# EAGLE library part AD9956 (library AD9956)
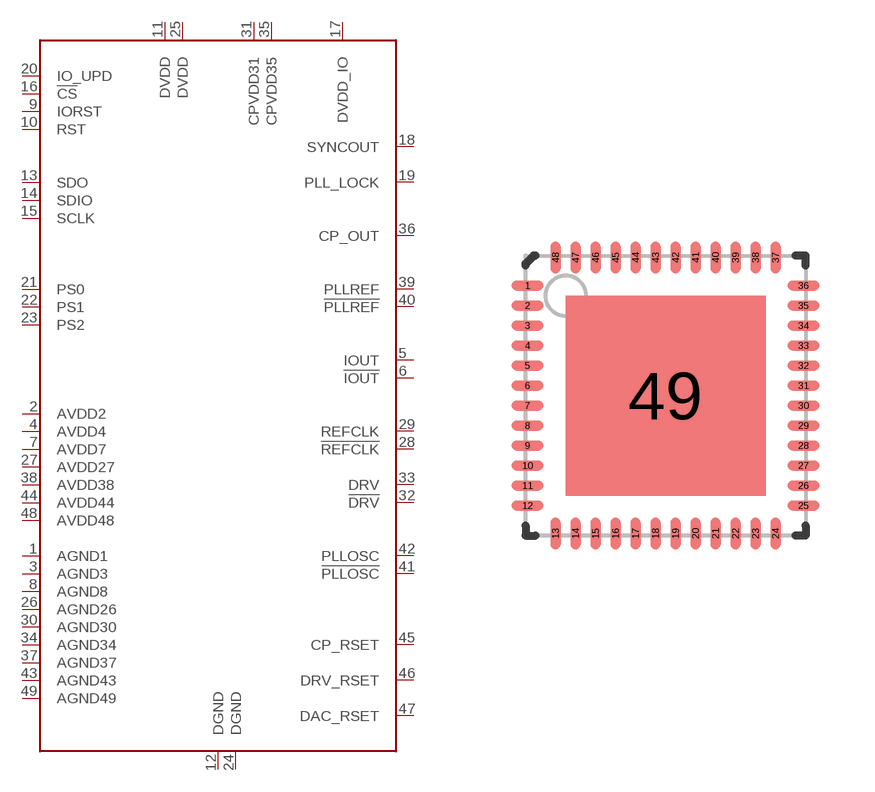
[diagram p0: symbol with the pads of QFN48-LFCSP48; footprint QFN48-LFCSP48]

Designator prefix -

## AD9956  [QFN48-LFCSP48]
1  AGND1  pwr
2  AVDD2  pwr
3  AGND3  pwr
4  AVDD4  pwr
5  IOUT  out
6  !IOUT  out
7  AVDD7  pwr
8  AGND8  pwr
9  IORST  in
10  RST  in
11  DVDD  pwr
12  DGND  pwr
13  SDO
14  SDIO
15  SCLK  in
16  !CS  in
17  DVDD_IO  pwr
18  SYNCOUT  out
19  PLL_LOCK  out
20  IO_UPD  in
21  PS0
22  PS1
23  PS2
24  DGND  pwr
25  DVDD  pwr
26  AGND26  pwr
27  AVDD27  pwr
28  !REFCLK  in
29  REFCLK  in
30  AGND30  pwr
31  CPVDD31  pwr
32  !DRV
33  DRV
34  AGND34  pwr
35  CPVDD35  pwr
36  CP_OUT  out
37  AGND37  pwr
38  AVDD38  pwr
39  PLLREF
40  !PLLREF
41  !PLLOSC
42  PLLOSC
43  AGND43  pwr
44  AVDD44  pwr
45  CP_RSET
46  DRV_RSET
47  DAC_RSET
48  AVDD48  pwr
49  AGND49  pwr

## Footprint QFN48-LFCSP48 (pad centres in mm)
smd 0.8 x 0.25: 1 -3.45,2.75; 2 -3.45,2.25; 3 -3.45,1.75; 4 -3.45,1.25; 5 -3.45,0.75; 6 -3.45,0.25; 7 -3.45,-0.25; 8 -3.45,-0.75; 9 -3.45,-1.25; 10 -3.45,-1.75; 11 -3.45,-2.25; 12 -3.45,-2.75; 25 3.45,-2.75; 26 3.45,-2.25; 27 3.45,-1.75; 28 3.45,-1.25; 29 3.45,-0.75; 30 3.45,-0.25; 31 3.45,0.25; 32 3.45,0.75; 33 3.45,1.25; 34 3.45,1.75; 35 3.45,2.25; 36 3.45,2.75
smd 0.25 x 0.8: 13 -2.75,-3.45; 14 -2.25,-3.45; 15 -1.75,-3.45; 16 -1.25,-3.45; 17 -0.75,-3.45; 18 -0.25,-3.45; 19 0.25,-3.45; 20 0.75,-3.45; 21 1.25,-3.45; 22 1.75,-3.45; 23 2.25,-3.45; 24 2.75,-3.45; 37 2.75,3.45; 38 2.25,3.45; 39 1.75,3.45; 40 1.25,3.45; 41 0.75,3.45; 42 0.25,3.45; 43 -0.25,3.45; 44 -0.75,3.45; 45 -1.25,3.45; 46 -1.75,3.45; 47 -2.25,3.45; 48 -2.75,3.45
smd 5 x 5: 49 0,0